# Altium footprint library INFINEON_PG-TO252-3.PcbLib: 1 footprints
Each footprint in its own frame and in the unit in brackets; x right, y up, seen from the top. Pads: shape width x height; smd on the part's side, far side on the other; paste and mask are expansions set on the pad; w line width, h text height; cw(c..) or ccw(c..) is an arc to the next point about the centre after c.
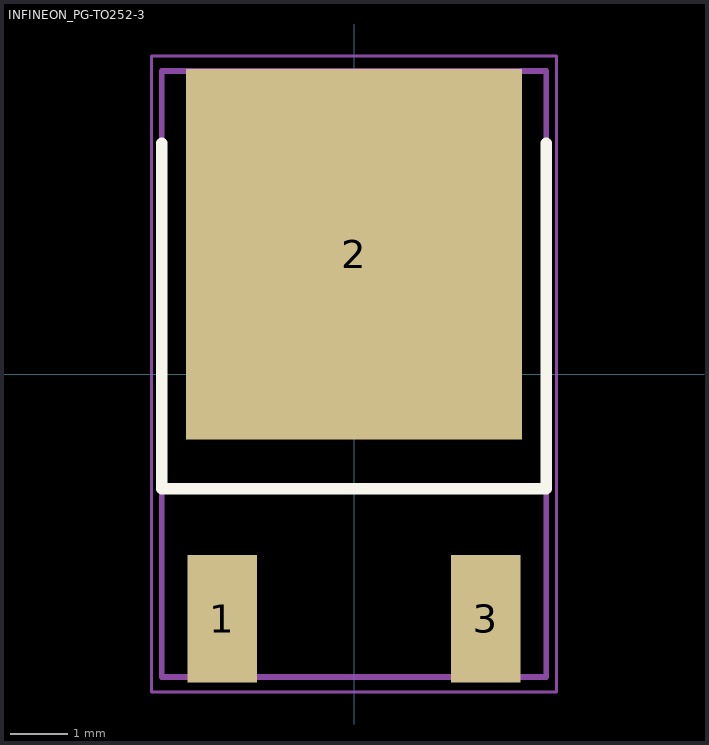
[diagram p0: the footprint, top view; thin cyan lines are the x and y axes]

## INFINEON_PG-TO252-3 [mm] "INFINEON_PG-TO252-3"
height 2.35
pads (3):
  rect 1.2x2.2 smd paste-0.05: 1(-2.28,-4.23) 3(2.28,-4.23)
  rect 5.8x6.4 smd paste-2539.97: 2(0,2.07)
Top Overlay:
  lines w0.2: -3.325,3.99 -3.325,-1.98 3.325,-1.98 3.325,3.99
Top Paste:
  region: 2.85,1.92 0.15,1.92 0.15,-1.08 2.85,-1.08
  rectangle: -2.85,-1.08 -0.15,1.92
  region: 2.85,5.22 0.15,5.22 0.15,2.22 2.85,2.22
  rectangle: -2.85,2.22 -0.15,5.22
Mechanical 13:
  lines w0.1: -3.325,-5.24 3.325,-5.24 3.325,5.24 -3.325,5.24 -3.325,-5.24
Mechanical 15:
  lines w0.05: -0.4,0 0.4,0 ; 0,-0.4 0,0.4 ; -3.5,-5.5 -3.5,5.5 3.5,5.5 3.5,-5.5 -3.5,-5.5
3D body "INFINEON_PG-TO252-3.stp": height 2.36, standoff 0, extent -3.25,-4.99 3.25,4.99